# Altium footprint library DisplayPort-2013655-5.PcbLib: 1 footprints
Each footprint in its own frame and in the unit in brackets; x right, y up, seen from the top. Pads: shape width x height; smd on the part's side, far side on the other; paste and mask are expansions set on the pad; w line width, h text height; cw(c..) or ccw(c..) is an arc to the next point about the centre after c.
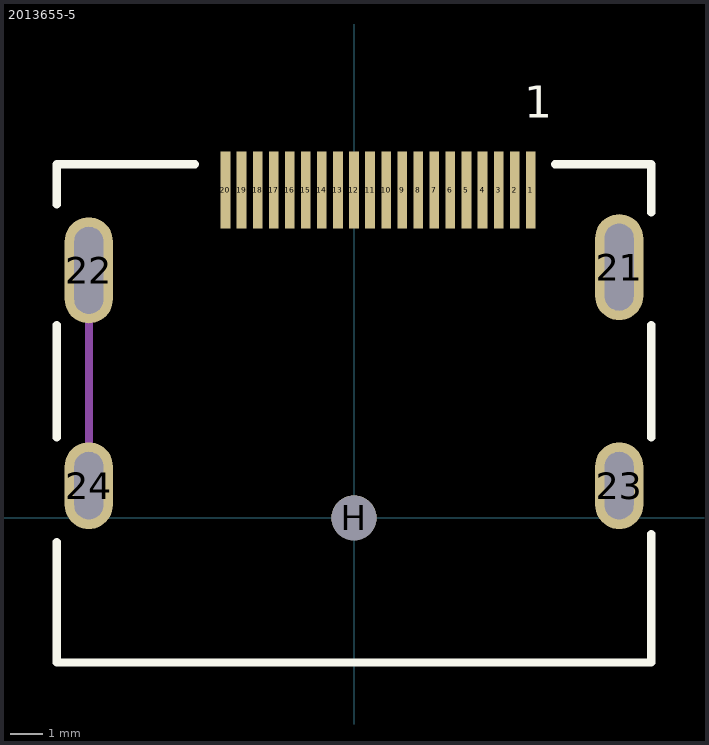
[diagram p0: the footprint, top view; thin cyan lines are the x and y axes]

## 2013655-5 [mm] "Standard DisplayPort"
height 6.65
pads (25):
  rect 0.3x2.4 smd: 1(5.5,10.2) 2(5,10.2) 3(4.5,10.2) 4(4,10.2) 5(3.5,10.2) 6(3,10.2) 7(2.5,10.2) 8(2,10.2) 9(1.5,10.2) 10(1,10.2) 11(0.5,10.2) 12(0,10.2) 13(-0.5,10.2) 14(-1,10.2) 15(-1.5,10.2) 16(-2,10.2) 17(-2.5,10.2) 18(-3,10.2) 19(-3.5,10.2) 20(-4,10.2)
  oval 1.5x3.3 hole 0.9 slot 2.7 at 90 deg: 21(8.25,7.8) 22(-8.25,7.7)
  oval 1.5x2.7 hole 0.9 slot 2.1 at 90 deg: 23(8.25,1) 24(-8.25,1)
  round 1.4 hole 1.4 unplated: H(0,0)
Top Overlay:
  lines w0.254: -9.25,-0.75 -9.25,-4.5 9.25,-4.5 9.25,-0.5 ; -9.25,2.5 -9.25,6 ; -9.25,9.75 -9.25,11 -4.95,11 ; 6.25,11 9.25,11 9.25,9.5 ; 9.25,2.5 9.25,6
  text "1" at 5.3,12.45 h1
Mechanical 1:
  lines w0.254: -8.25,1 -8.25,7.7
3D body "472720001.stp": height 6.65, standoff -2.1, extent -8.893,-4.29 8.893,10.6